# Altium schematic symbol library Memory.SchLib: 1 symbol
Pins are listed as number, name and electrical type; pins without a type are passive.

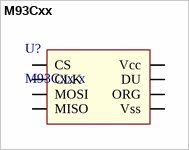
[diagram p0: symbol M93Cxx]

## M93Cxx
designator U?, comment M93Cxx-x
EEPROM
footprint m93cxx-soic8 (SOIC, 8-Leads, Body 4,90x3,90mm, Pitch 1,27mm, IPC Medium Density)
pins: 1 CS, 2 CLK, 3 MOSI, 4 MISO, 5 Vss, 6 ORG, 7 DU, 8 Vcc